# EAGLE library part ISO6721BDR (library ISO6721BDR)
ISO672x General Purpose Dual Channel Digital Isolators with Robust EMC Source: Datasheet <https://www.arrow.com/en/products/iso6721bdr/texas-instruments>
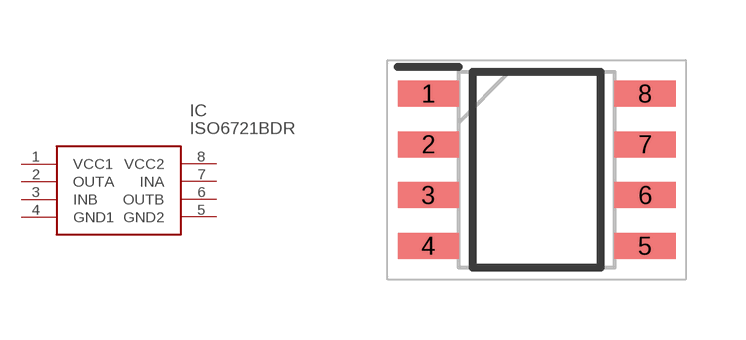
[diagram p0: symbol with the pads of SOIC127P600X175-8N; footprint SOIC127P600X175-8N]

Designator prefix IC

## ISO6721BDR (Description: ISO672x General Purpose Dual Channel Digital Isolators with Robust EMC; Height: 1.75mm; Manufacturer_Name: Texas Instruments; Manufacturer_Part_Number: ISO6721BDR; Mouser_Part_Number: 595-ISO6721BDR; Mouser_Price-Stock: https://www.mouser.co.uk/ProductDetail/Texas-Instruments/ISO6721BDR?qs=eP2BKZSCXI7%2FRQwMzsUPCg%3D%3D)  [SOIC127P600X175-8N]
1  VCC1
2  OUTA
3  INB
4  GND1
5  GND2
6  OUTB
7  INA
8  VCC2

## Footprint SOIC127P600X175-8N (pad centres in mm)
D
smd 1.528 x 0.65: 1 -2.711,1.905; 2 -2.711,0.635; 3 -2.711,-0.635; 4 -2.711,-1.905; 5 2.711,-1.905; 6 2.711,-0.635; 7 2.711,0.635; 8 2.711,1.905